# Altium footprint library Microchip.PcbLib: 4 footprints
Each footprint in its own frame and in the unit in brackets; x right, y up, seen from the top. Pads: shape width x height; smd on the part's side, far side on the other; paste and mask are expansions set on the pad; w line width, h text height; cw(c..) or ccw(c..) is an arc to the next point about the centre after c.
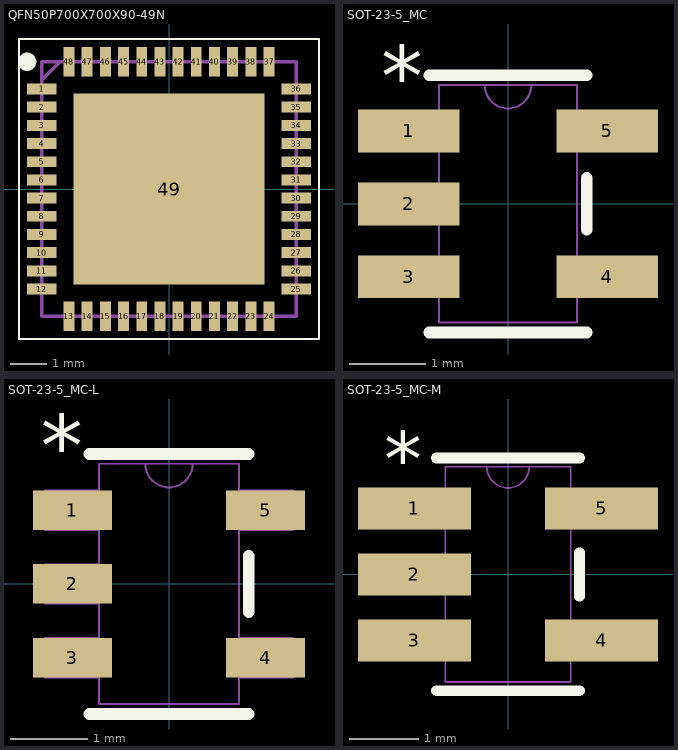
[diagram p0: the footprints below, top view; thin cyan lines are the x and y axes]

## QFN50P700X700X90-49N [mil]
pads (49):
  rect 31.5x11.81 smd: 1(-137.8,108.27) 2(-137.8,88.58) 3(-137.8,68.9) 4(-137.8,49.21) 5(-137.8,29.53) 6(-137.8,9.84) 7(-137.8,-9.84) 8(-137.8,-29.53) 9(-137.8,-49.21) 10(-137.8,-68.9) 11(-137.8,-88.58) 12(-137.8,-108.27) 25(137.8,-108.27) 26(137.8,-88.58) 27(137.8,-68.9) 28(137.8,-49.21) 29(137.8,-29.53) 30(137.8,-9.84) 31(137.8,9.84) 32(137.8,29.53) 33(137.8,49.21) 34(137.8,68.9) 35(137.8,88.58) 36(137.8,108.27)
  rect 11.81x31.5 smd: 13(-108.27,-137.8) 14(-88.58,-137.8) 15(-68.9,-137.8) 16(-49.21,-137.8) 17(-29.53,-137.8) 18(-9.84,-137.8) 19(9.84,-137.8) 20(29.53,-137.8) 21(49.21,-137.8) 22(68.9,-137.8) 23(88.58,-137.8) 24(108.27,-137.8) 37(108.27,137.8) 38(88.58,137.8) 39(68.9,137.8) 40(49.21,137.8) 41(29.53,137.8) 42(9.84,137.8) 43(-9.84,137.8) 44(-29.53,137.8) 45(-49.21,137.8) 46(-68.9,137.8) 47(-88.58,137.8) 48(-108.27,137.8)
  rect 206.69x206.69 smd: 49(0,0)
Top Overlay:
  circle w9.84: c-153.54,137.8 r4.92
  lines w1.97: -162.4,-162.4 -162.4,162.4 162.4,162.4 162.4,-162.4 -162.4,-162.4
Assembly Top:
  lines w3.94: -137.8,118.11 -118.11,137.8 ; -137.8,-137.8 -137.8,137.8 137.8,137.8 137.8,-137.8 -137.8,-137.8
3D body: height 35.43, standoff 0, extent -139.76,-139.76 139.77,139.77

## SOT-23-5_MC [mil]
pads (5):
  rect 52x22 smd: 1(-51,37.4) 2(-51,0) 3(-51,-37.4) 4(51,-37.4) 5(51,37.4)
Top Overlay:
  lines w6: -40.5,-66 40.5,-66 ; -40.5,66 40.5,66 ; 40.5,-13.3 40.5,13.3
  text "*" at -65,50 h31.25
Outline:
  lines w1: -12,61 ccw(c0,61) 12,61 ; -63,-47.4 -35.5,-47.4 -35.5,-27.4 -63,-27.4 -63,-47.4 ; -63,-10 -35.5,-10 -35.5,10 -63,10 -63,-10 ; -63,27.4 -35.5,27.4 -35.5,47.4 -63,47.4 -63,27.4 ; -35.5,-61 -35.5,61 35.5,61 35.5,-61 -35.5,-61 ; 35.5,-47.4 63,-47.4 63,-27.4 35.5,-27.4 35.5,-47.4 ; 35.5,27.4 63,27.4 63,47.4 35.5,47.4 35.5,27.4
3D body: height 57.09, standoff 0, extent -62.99,-60.98 63,60.99

## SOT-23-5_MC-L [mil]
pads (5):
  rect 40x20 smd: 1(-49,37.4) 2(-49,0) 3(-49,-37.4) 4(49,-37.4) 5(49,37.4)
Top Overlay:
  lines w6: -40.5,-66 40.5,-66 ; -40.5,66 40.5,66 ; 40.5,-14.3 40.5,14.3
  text "*" at -65,55 h31.25
Outline:
  lines w1: -12,61 ccw(c0,61) 12,61 ; -63,-47.4 -63,-27.4 -35.5,-27.4 -35.5,-47.4 -63,-47.4 ; -63,-10 -63,10 -35.5,10 -35.5,-10 -63,-10 ; -63,27.4 -63,47.4 -35.5,47.4 -35.5,27.4 -63,27.4 ; -35.5,-61 35.5,-61 35.5,61 -35.5,61 -35.5,-61 ; 35.5,-47.4 35.5,-27.4 63,-27.4 63,-47.4 35.5,-47.4 ; 35.5,27.4 35.5,47.4 63,47.4 63,27.4 35.5,27.4
3D body: height 57.09, standoff 0, extent -62.99,-60.98 63,60.99

## SOT-23-5_MC-M [mil]
pads (5):
  rect 64x24 smd: 1(-53,37.4) 2(-53,0) 3(-53,-37.4) 4(53,-37.4) 5(53,37.4)
Top Overlay:
  lines w6: -40.5,-66 40.5,-66 ; -40.5,66 40.5,66 ; 40.5,-12.3 40.5,12.3
  text "*" at -70,50 h31.25
Outline:
  lines w1: -12,61 ccw(c0,61) 12,61 ; -63,-47.4 -63,-27.4 -35.5,-27.4 -35.5,-47.4 -63,-47.4 ; -63,-10 -63,10 -35.5,10 -35.5,-10 -63,-10 ; -63,27.4 -63,47.4 -35.5,47.4 -35.5,27.4 -63,27.4 ; -35.5,-61 35.5,-61 35.5,61 -35.5,61 -35.5,-61 ; 35.5,-47.4 35.5,-27.4 63,-27.4 63,-47.4 35.5,-47.4 ; 35.5,27.4 35.5,47.4 63,47.4 63,27.4 35.5,27.4
3D body: height 57.09, standoff 0, extent -62.99,-60.98 63,60.99